# EAGLE library part JTAGICE3-CONNECTOR (library con-jtagice3)
JTAG Connector for JTAGICE3 Designed by Michael Hohl <http://www.michaelhohl.net/> in May 2013. You are free to use, edit and distribute this library.
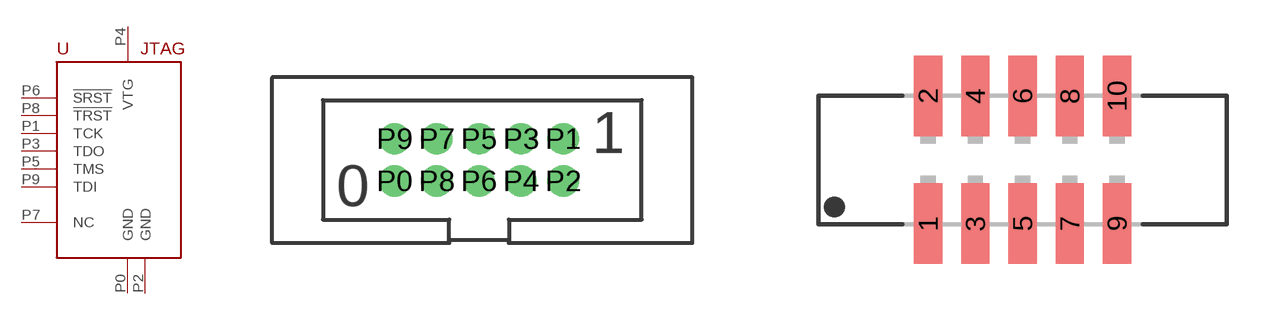
[diagram p0: symbol with the pads of JTAGICE3-50MIL; footprints JTAGICE3-50MIL, JTAGIC3-50MIL-SMD]

Designator prefix -

## JTAGICE3-CONNECTOR50MIL-THT  [JTAGICE3-50MIL]
P0  GND
P1  TCK
P2  GND
P3  TDO
P4  VTG
P5  TMS
P6  !SRST
P7  NC
P8  !TRST
P9  TDI

## JTAGICE3-CONNECTOR50MIL-SMD  [JTAGIC3-50MIL-SMD]
1  TCK
2  GND
3  TDO
4  VTG
5  TMS
6  !SRST
7  NC
8  !TRST
9  TDI
10  GND

## JTAGICE3-CONNECTOR100MIL-SMD  [JTAGICE3-100MIL-SMD]
Pads as for JTAGIC3-50MIL-SMD

## Footprint JTAGICE3-50MIL (pad centres in mm)
50mil THT Package - View Datasheet <http://www.produktinfo.conrad.com/datenblaetter/725000-749999/740125-da-01-en-STIFTLEISTE_10POL_RM_1_27.pdf> - Order Online @Conrad.at <http://www.conrad.at/ce/de/product/740125/Stiftleiste-Print-Montage-gerade-Rastermass-127-mm-Pole-2-x-5-10120350-BKL-Electronic-Inhalt-1-St>
drill 0.432 pad 0.813: P0 -2.54,-0.635; P1 2.54,0.635; P2 2.54,-0.635; P3 1.27,0.635; P4 1.27,-0.635; P5 0,0.635; P6 0,-0.635; P7 -1.27,0.635; P8 -1.27,-0.635; P9 -2.54,0.635

## Footprint JTAGIC3-50MIL-SMD (pad centres in mm)
50mil SMD Package
smd 0.762 x 2.159: 1 -2.54,-1.714; 2 -2.54,1.714; 3 -1.27,-1.714; 4 -1.27,1.714; 5 0,-1.714; 6 0,1.714; 7 1.27,-1.714; 8 1.27,1.714; 9 2.54,-1.714; 10 2.54,1.714

## Footprint JTAGICE3-100MIL-SMD (pad centres in mm)
100mil SMD Package
smd 1.27 x 3.2: 1 -5.08,-2.5; 2 -5.08,2.5; 3 -2.54,-2.5; 4 -2.54,2.5; 5 0,-2.5; 6 0,2.5; 7 2.54,-2.5; 8 2.54,2.5; 9 5.08,-2.5; 10 5.08,2.5